# EAGLE library part CS5171GDR8G (library CS5171GDR8G)
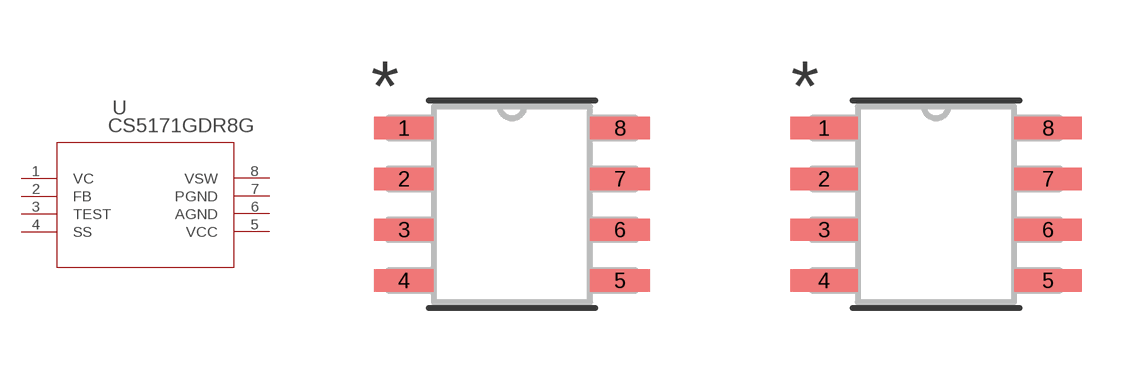
[diagram p0: symbol with the pads of SOIC8_ONS; footprints SOIC8_ONS, SOIC8_ONS-M]

Designator prefix U

## CS5171GDR8G (COPYRIGHT: Copyright (C) 2022 Ultra Librarian. All rights reserved.; MANUFACTURER_PART_NUMBER: CS5171GDR8G; MFR_NAME: onsemi)  [SOIC8_ONS]
1  VC  out
2  FB  out
3  TEST  pas
4  SS  pas
5  VCC  pwr
6  AGND  pwr
7  PGND  pwr
8  VSW  pas

## CS5171GDR8GSOIC8_ONS-M (COPYRIGHT: Copyright (C) 2022 Ultra Librarian. All rights reserved.; MANUFACTURER_PART_NUMBER: CS5171GDR8G; MFR_NAME: onsemi)  [SOIC8_ONS-M]
Pads as for SOIC8_ONS

## CS5171GDR8GSOIC8_ONS-L (COPYRIGHT: Copyright (C) 2022 Ultra Librarian. All rights reserved.; MANUFACTURER_PART_NUMBER: CS5171GDR8G; MFR_NAME: onsemi)  [SOIC8_ONS-L]
Pads as for SOIC8_ONS

## Footprint SOIC8_ONS (pad centres in mm)
smd 1.493 x 0.558: 1 -2.702,1.905; 2 -2.702,0.635; 3 -2.702,-0.635; 4 -2.702,-1.905; 5 2.702,-1.905; 6 2.702,-0.635; 7 2.702,0.635; 8 2.702,1.905

## Footprint SOIC8_ONS-M (pad centres in mm)
smd 1.693 x 0.558: 1 -2.802,1.905; 2 -2.802,0.635; 3 -2.802,-0.635; 4 -2.802,-1.905; 5 2.802,-1.905; 6 2.802,-0.635; 7 2.802,0.635; 8 2.802,1.905

## Footprint SOIC8_ONS-L (pad centres in mm)
smd 1.293 x 0.508: 1 -2.602,1.905; 2 -2.602,0.635; 3 -2.602,-0.635; 4 -2.602,-1.905; 5 2.602,-1.905; 6 2.602,-0.635; 7 2.602,0.635; 8 2.602,1.905